# EAGLE library part MTCH101 (library mibe)
MTCH101 - Single-Channel Proximity Detector The MTCH101 provides an easy way to add proximity or touch detection to any human interface application. The device integrates a single-channel capacitive proximity detection, which can work through plastic, glass or wood-front panel. It also supports a wide range of conductive materials as sensor, like copper pad on PCB, silver or carbon printing on plastic, Indium Tin Oxide (ITO) pad, wire/cable, etc. On-board adjustable sensitivity and power mode selection allow the user to configure the device at run time easily. An active-low output will communicate the state of the sensor to a host/master MCU, or drive an indication LED.
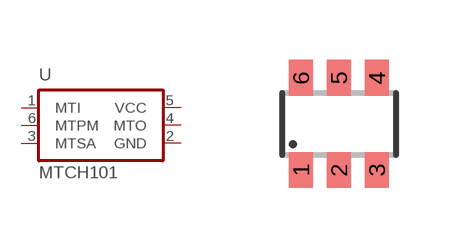
[diagram p4: symbol with the pads of SOT23-6; footprint SOT23-6]

Designator prefix U

## MTCH101  [SOT23-6]
1  MTI  in
2  GND  pwr
3  MTSA  in
4  MTO  oc
5  VCC  pwr
6  MTPM  in

## Footprint SOT23-6 (pad centres in mm)
Small Outline Transistor 6 lead
smd 0.6 x 0.9: 1 -0.95,-1.15; 2 0,-1.15; 3 0.95,-1.15; 4 0.95,1.15; 5 0,1.15; 6 -0.95,1.15